# Altium footprint library SM12B-SRSS-TBLFSN.PcbLib: 1 footprints
Each footprint in its own frame and in the unit in brackets; x right, y up, seen from the top. Pads: shape width x height; smd on the part's side, far side on the other; paste and mask are expansions set on the pad; w line width, h text height; cw(c..) or ccw(c..) is an arc to the next point about the centre after c.
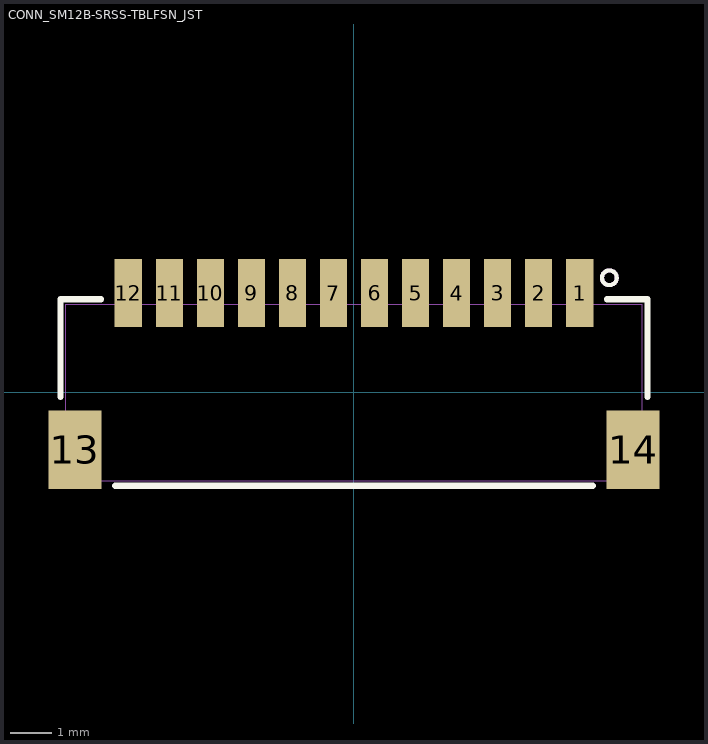
[diagram p0: the footprint, top view; thin cyan lines are the x and y axes]

## CONN_SM12B-SRSS-TBLFSN_JST [mil]
pads (14):
  rect 26x65 smd paste+0 mask+0: 1(216.54,95.33) 2(177.17,95.33) 3(137.8,95.33) 4(98.43,95.33) 5(59.06,95.33) 6(19.69,95.33) 7(-19.68,95.33) 8(-59.06,95.33) 9(-98.43,95.33) 10(-137.8,95.33) 11(-177.17,95.33) 12(-216.54,95.33)
  rect 51x75 smd paste+0 mask+0: 13(-267.72,-54.87) 14(267.72,-54.87)
Top Overlay:
  circle w3.94: c245,110 r7.07
  lines w6: -281.5,-4.27 -281.5,89.5 -242.64,89.5 ; -229.12,-89.5 229.12,-89.5 ; 242.64,89.5 281.5,89.5 281.5,-4.27
Mechanical 13:
  circle w3.94: c245,110 r7.07
  lines w1: -276.5,-84.5 -276.5,84.5 276.5,84.5 276.5,-84.5 -276.5,-84.5
  text ".Designator" at 188.77,156.81 h23.62
3D body: height 116.14, standoff 0, extent -276.5,-84.5 276.5,84.5